# EAGLE library part WS2811 (library worldsemi)
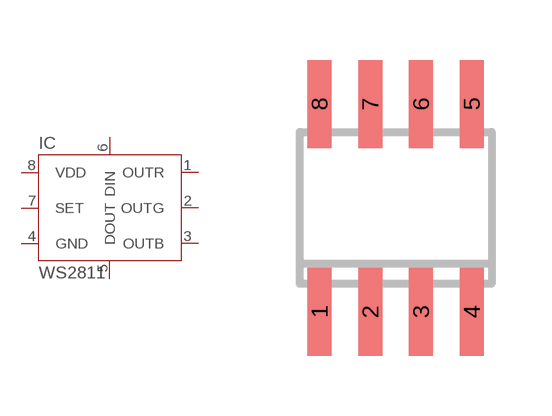
[diagram p0: symbol with the pads of SO-8; footprint SO-8]

Designator prefix IC

## WS2811  [SO-8]
1  OUTR  oc
2  OUTG  oc
3  OUTB  oc
4  GND  pwr
5  DOUT  out
6  DIN  in
7  SET  in
8  VDD  pwr

## Footprint SO-8 (pad centres in mm)
SOP-8 package
smd 0.6 x 2.2: 1 -1.905,-2.6; 2 -0.635,-2.6; 3 0.635,-2.6; 4 1.905,-2.6; 5 1.905,2.6; 6 0.635,2.6; 7 -0.635,2.6; 8 -1.905,2.6